# EAGLE library part ZXTD1M832 (library zetex)
DUAL 12V PNP LOW SATURATION SWITCHING TRANSISTOR MPPS Miniature Package Power Solutions Source: www.zetex.com/ .. zxtd1m832.pdf
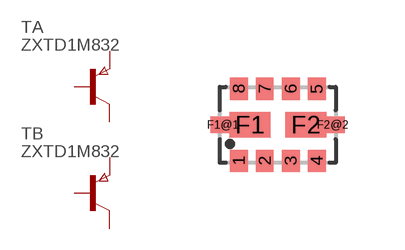
[diagram p14: symbol with the pads of MLP832; footprint MLP832]

Designator prefix T; gates A=PNP B=PNP

## ZXTD1M832 (OC_FARNELL: unknown; OC_NEWARK: unknown)  [MLP832]
1  A:B  pas
2  A:E  pas
3  B:B  pas
4  B:E  pas
5  B:C  pas
6  B:C  pas
7  A:C  pas
8  A:C  pas

## Footprint MLP832 (pad centres in mm)
MLP832 Package Source: www.zetex.com/ .. zxtd1m832.pdf
smd 0.44 x 0.55: 1 -0.975,-0.9; 2 -0.325,-0.9; 3 0.325,-0.9; 4 0.975,-0.9; 5 0.975,0.9; 6 0.325,0.9; 7 -0.325,0.9; 8 -0.975,0.9
smd 1.02 x 0.63: F1 -0.7,0; F2 0.7,0
smd 0.61 x 0.4: F1@1 -1.375,0; F2@2 1.375,0